# Altium footprint library Chip.PcbLib: 3 footprints
Each footprint in its own frame and in the unit in brackets; x right, y up, seen from the top. Pads: shape width x height; smd on the part's side, far side on the other; paste and mask are expansions set on the pad; w line width, h text height; cw(c..) or ccw(c..) is an arc to the next point about the centre after c.
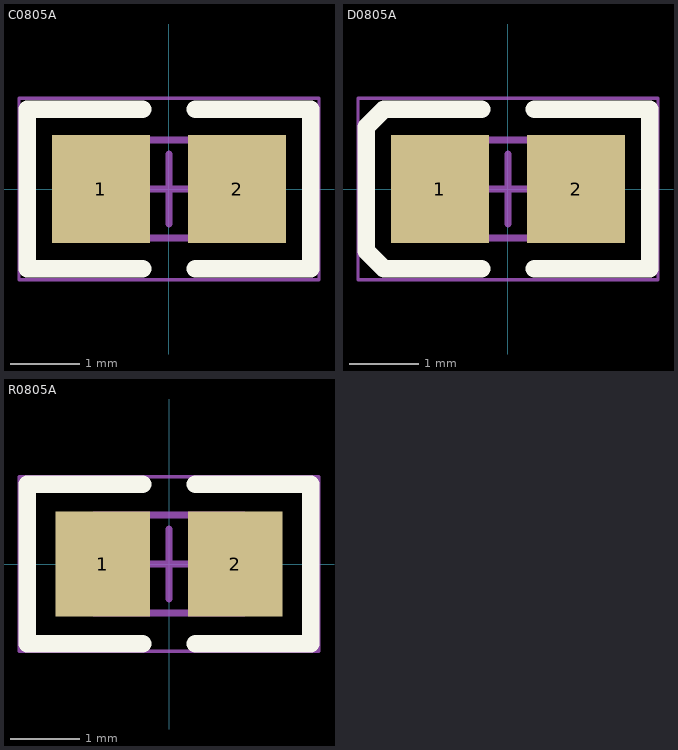
[diagram p0: the footprints below, top view; thin cyan lines are the x and y axes]

## C0805A [mm] "0805 Capacitor"
height 0.65
pads (2):
  rect 1.4x1.55 smd: 1(-0.975,0) 2(0.975,0)
Top Overlay:
  lines w0.254: -0.381,-1.143 -2.032,-1.143 -2.032,1.143 -0.381,1.143 ; 0.381,-1.143 2.032,-1.143 2.032,1.143 0.381,1.143
Mechanical 13:
  lines w0.1: -1.075,-0.7 -1.075,0.7 1.075,0.7 1.075,-0.7 -1.075,-0.7
Mechanical 15:
  lines w0.05: -2.15,-1.3 -2.15,1.3 2.15,1.3 2.15,-1.3 -2.15,-1.3
  lines w0.1: -0.5,0 0.5,0 ; 0,-0.5 0,0.5
3D body "C0805A.step": height 0.65, standoff 0, extent -1.075,-0.7 1.075,0.7

## D0805A [mm] "0805 SMD Diode"
height 0.65
pads (2):
  rect 1.4x1.55 smd: 1(-0.975,0) 2(0.975,0)
Top Overlay:
  lines w0.254: -0.381,-1.143 -1.778,-1.143 -2.032,-0.889 -2.032,0.889 -1.778,1.143 -0.381,1.143 ; 0.381,-1.143 2.032,-1.143 2.032,1.143 0.381,1.143
Mechanical 13:
  lines w0.1: -1.075,-0.7 1.075,-0.7 1.075,0.7 -1.075,0.7 -1.075,-0.7
Mechanical 15:
  lines w0.05: -2.15,-1.3 2.15,-1.3 2.15,1.3 -2.15,1.3 -2.15,-1.3
  lines w0.1: -0.5,0 0.5,0 ; 0,-0.5 0,0.5
3D body "D0805A.step": height 0.65, standoff 0, extent -1.075,-0.7 1.075,0.7

## R0805A [mm] "0805 Chip Resistor, Body 2.00x1.25mm, IPC Low Density"
height 0.65
pads (2):
  rect 1.35x1.5 smd: 1(-0.95,0) 2(0.95,0)
Top Overlay:
  lines w0.254: -0.381,-1.143 -2.032,-1.143 -2.032,1.143 -0.381,1.143 ; 0.381,-1.143 2.032,-1.143 2.032,1.143 0.381,1.143
Mechanical 13:
  lines w0.1: -1.075,-0.7 -1.075,0.7 1.075,0.7 1.075,-0.7 -1.075,-0.7
Mechanical 15:
  lines w0.05: -2.15,-1.25 -2.15,1.25 2.15,1.25 2.15,-1.25 -2.15,-1.25
  lines w0.1: -0.5,0 0.5,0 ; 0,-0.5 0,0.5
3D body "R0805A.step": height 0.65, standoff 0, extent -1.075,-0.7 1.075,0.7